# Altium footprint library light_driver.PcbLib: 26 footprints (part 2 of 2)
Each footprint in its own frame and in the unit in brackets; x right, y up, seen from the top. Pads: shape width x height; smd on the part's side, far side on the other; paste and mask are expansions set on the pad; w line width, h text height; cw(c..) or ccw(c..) is an arc to the next point about the centre after c.
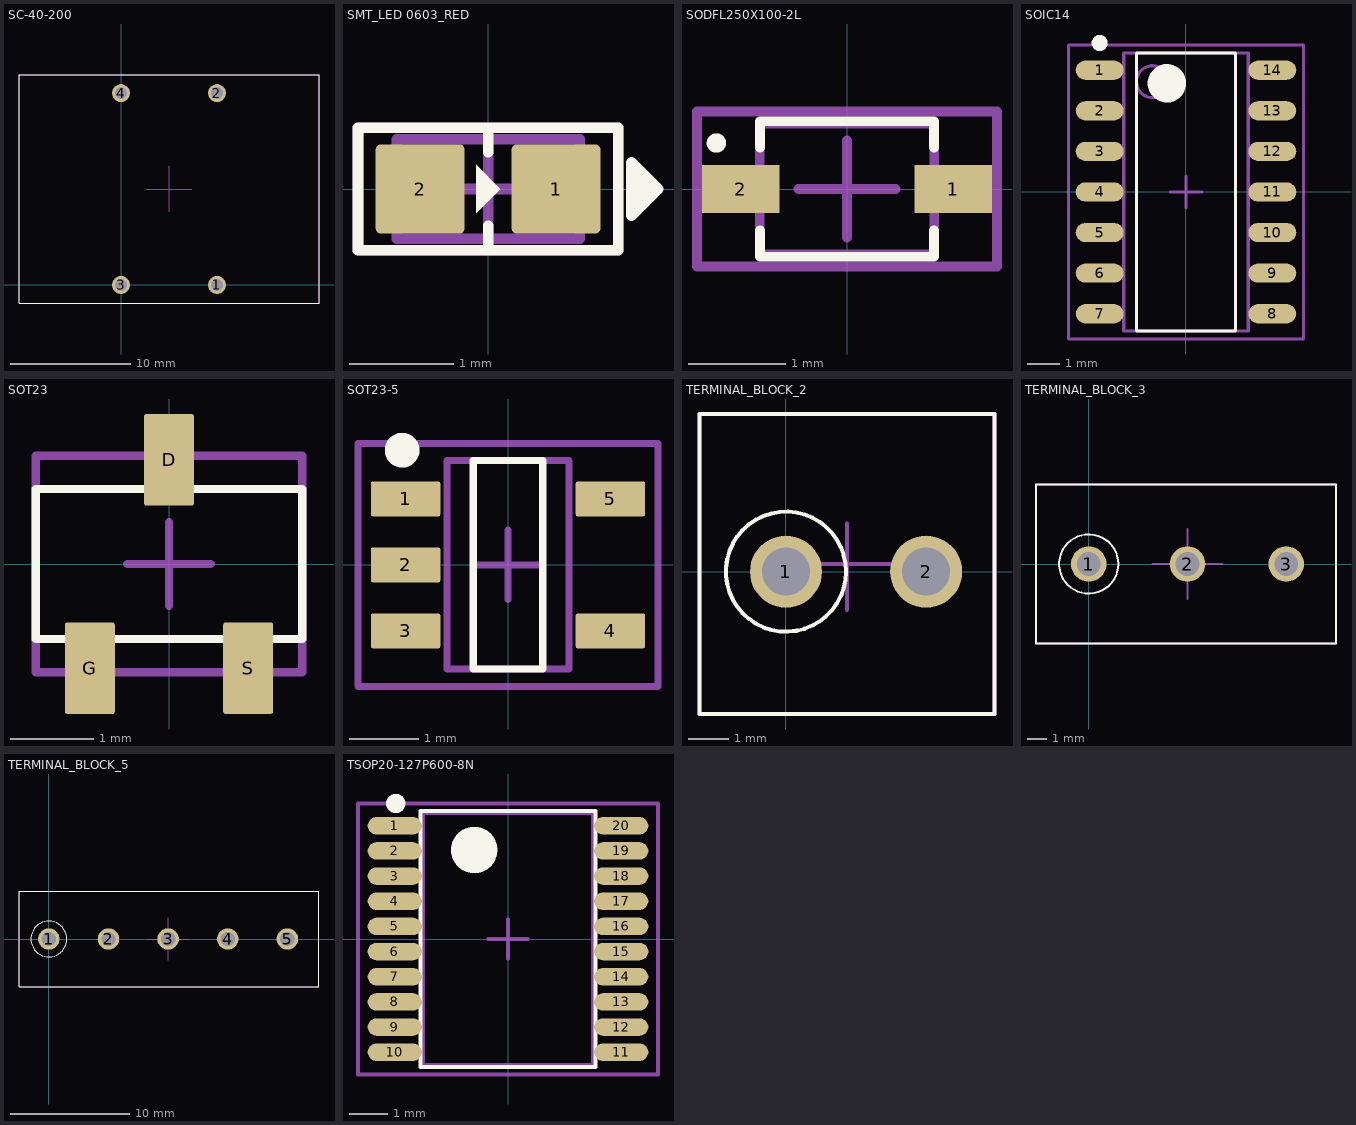
[diagram p1: the footprints below, top view; thin cyan lines are the x and y axes]

## SC-40-200 [mm] "Common mode choke"
pads (4):
  round 1.5 hole 1: 1(8,0) 2(8,16) 3(0,0) 4(0,16)
Top Overlay:
  lines w0.102: -8.509,-1.524 16.51,-1.524 16.51,17.526 -8.509,17.526 -8.509,-1.524
Top Assembly:
  lines w0.102: 2.095,8.001 4,8.001 ; 4,6.096 4,8.001 ; 4,9.906 4,8.001 ; 5.905,8.001 4,8.001 ; -8.509,-1.524 16.51,-1.524 16.51,17.526 -8.509,17.526 -8.509,-1.524
Top Courtyard:
  lines w0.102: -8.509,-1.524 16.51,-1.524 16.51,17.526 -8.509,17.526 -8.509,-1.524
3D body "SC-04-200.step": height 22.34, standoff -15.03, extent -8.5,-1.5 16.5,17.5

## SMT_LED 0603_RED [mm] "Chip Diode, 2-Leads, Body 1.60x0.80mm, IPC Medium Density"
height 0.45
pads (2):
  rrect10% 0.85x0.85 smd: 1(0.65,0) 2(-0.65,0)
Top Overlay:
  region: 1.372,0.254 1.626,0 1.372,-0.254
  region: -0.114,0.191
  region: -0.114,0.231 -0.114,-0.231 0.117,0
  lines w0.102: 0,-0.584 0,-0.35 ; 0,0.35 0,0.584 ; -1.245,-0.584 -1.245,0.584 1.245,0.584 1.245,-0.584 -1.245,-0.584 ; 1.372,-0.254 1.372,0.254 1.626,0 1.372,-0.254
Top Assembly:
  lines w0.1: -0.875,-0.475 -0.875,0.475 0.875,0.475 0.875,-0.475 -0.875,-0.475
Top Courtyard:
  lines w0.102: -0.475,0 0.475,0 ; 0,-0.475 0,0.475 ; -1.245,-0.584 -1.245,0.584 1.245,0.584 1.245,-0.584 -1.245,-0.584
3D body "LED 0603 Lens RED.STEP": height 0.53, standoff 0.18, extent -0.55,-0.4 0.55,0.4
3D body "LED 0603 Base RED.STEP": height 0.28, standoff 0, extent -0.8,-0.4 0.8,0.4

## SODFL250X100-2L [mm] "SODFL, 2-Leads, Body 1.25x2.50mm, IPC High Density"
height 1
pads (2):
  rrect1% 0.8x0.5 smd: 1(1.1,0) 2(-1.1,0)
Top Overlay:
  circle w0.1: c-1.35,0.475 r0.05
  lines w0.102: -0.9,-0.426 -0.9,-0.7 0.9,-0.7 0.9,-0.426 ; -0.9,0.426 -0.9,0.7 0.9,0.7 0.9,0.426
Top Assembly:
  lines w0.102: -0.5,0 0.5,0 ; 0,-0.5 0,0.5 ; -1.55,-0.8 -1.55,0.8 1.55,0.8 1.55,-0.8 -1.55,-0.8
Top Courtyard:
  lines w0.1: -0.9,-0.675 -0.9,0.675 0.9,0.675 0.9,-0.675 -0.9,-0.675
3D body "SODFL250X100-2L.step": height 1, standoff 0, extent -1.25,-0.675 1.25,0.675

## SOIC14 [mm] "SOIC, 14-Leads, Body 8.65x3.90mm, Pitch 1.27mm, IPC Medium Density"
height 1.75
pads (14):
  oval 1.5x0.6 smd: 1(-2.7,3.81) 2(-2.7,2.54) 3(-2.7,1.27) 4(-2.7,0) 5(-2.7,-1.27) 6(-2.7,-2.54) 7(-2.7,-3.81) 8(2.7,-3.81) 9(2.7,-2.54) 10(2.7,-1.27) 11(2.7,0) 12(2.7,1.27) 13(2.7,2.54) 14(2.7,3.81)
Top Overlay:
  circle w0.25: c-2.7,4.66 r0.125
  circle w0.6: c-0.599,3.399 r0.3
  lines w0.102: -1.55,-4.35 -1.55,4.35 1.55,4.35 1.55,-4.35 -1.55,-4.35
Top Assembly:
  circle w0.1: c-1.049,3.449 r0.5
  lines w0.102: -1.95,-4.35 -1.95,4.35 1.95,4.35 1.95,-4.35 -1.95,-4.35
Top Courtyard:
  lines w0.1: -0.5,0 0.5,0 ; 0,-0.5 0,0.5
  lines w0.102: -3.675,-4.6 -3.675,4.6 3.675,4.6 3.675,-4.6 -3.675,-4.6
3D body "SOIC14.step": height 1.75, standoff 0, extent -3,-4.35 3,4.35

## SOT23 [mm] "SOT23, 3-Leads, Body 2.90x2.30mm, Pitch 0.95mm, IPC High Density"
height 1.1
pads (3):
  rrect10% 0.6x1.1 smd: D(0,1.25) G(-0.95,-1.25) S(0.95,-1.25)
Top Overlay:
  lines w0.102: -1.6,-0.9 1.6,-0.9 1.6,0.9 -1.6,0.9 -1.6,-0.9
Top Assembly:
  lines w0.1: -1.6,-0.9 -1.6,0.9 1.6,0.9 1.6,-0.9 -1.6,-0.9
Top Courtyard:
  lines w0.102: -0.5,0 0.5,0 ; 0,-0.5 0,0.5 ; -1.6,-1.3 -1.6,1.3 1.6,1.3 1.6,-1.3 -1.6,-1.3
3D body "SOT95P230X110-3L.step": height 1.1, standoff 0, extent -1.5,-1.3 1.5,1.3

## SOT23-5 [mm] "SOT23, 5-Leads, Body 2.90x2.80mm, Pitch 0.95mm, IPC Medium Density"
height 1.25
pads (5):
  rrect10% 1x0.5 smd: 1(-1.475,0.95) 2(-1.475,0) 3(-1.475,-0.95) 4(1.475,-0.95) 5(1.475,0.95)
Top Overlay:
  circle w0.25: c-1.524,1.651 r0.125
  lines w0.102: -0.5,-1.5 0.5,-1.5 0.5,1.5 -0.5,1.5 -0.5,-1.5
Top Assembly:
  lines w0.102: -0.875,-1.5 -0.875,1.5 0.875,1.5 0.875,-1.5 -0.875,-1.5
Top Courtyard:
  lines w0.1: -0.5,0 0.5,0 ; 0,-0.5 0,0.5
  lines w0.102: -2.159,-1.75 -2.159,1.75 2.159,1.75 2.159,-1.75 -2.159,-1.75
3D body "SOT23-5.step": height 1.25, standoff 0, extent -1.5,-1.5 1.5,1.5

## TERMINAL_BLOCK_2 [mm] "2 Way 5mm screw terminal block"
height 10
pads (2):
  round 1.8 hole 1.2: 1(0,0) 2(3.5,0)
Top Overlay:
  circle w0.102: c0,0 r1.5
  lines w0.102: -2.159,-3.556 -2.159,3.937 5.207,3.937 5.207,-3.556 -2.159,-3.556
Top Assembly:
  lines w0.102: 0.445,0.191 2.603,0.191 ; 1.524,-0.953 1.524,1.206 ; -2.159,-3.556 5.207,-3.556 5.207,3.937 -2.159,3.937 -2.159,-3.556
Top Courtyard:
  lines w0.102: -2.159,-3.556 5.207,-3.556 5.207,3.937 -2.159,3.937 -2.159,-3.556
3D body "PCB Terminal Block 2 DEG381-3.5.step": height 8.6, standoff -3.6, extent -2.15,-3.5 5.25,3.9

## TERMINAL_BLOCK_3 [mm] "3 Way 5mm screw terminal block"
height 10
pads (3):
  round 1.8 hole 1.2: 1(0,0) 2(5,0) 3(10,0)
Top Overlay:
  circle w0.102: c0,0 r1.5
  lines w0.102: -2.671,-4.013 12.518,-4.013 12.518,4.013 -2.671,4.013 -2.671,-4.013
Top Assembly:
  lines w0.102: 3.222,0 5,0 ; 5,-1.778 5,0 ; 5,1.778 5,0 ; 6.778,0 5,0 ; -2.671,-4.013 -2.671,4.013 12.518,4.013 12.518,-4.013 -2.671,-4.013
Top Courtyard:
  lines w0.102: -2.671,-4.013 -2.671,4.013 12.518,4.013 12.518,-4.013 -2.671,-4.013
3D body "Screw Terminal Block 5mm 3-way.step": height 10, standoff -2, extent -2.65,-4 12.5,4

## TERMINAL_BLOCK_5 [mm] "5 Way 5mm screw terminal block"
height 10
pads (5):
  round 1.8 hole 1.2: 1(0,0) 2(5,0) 3(10,0) 4(15,0) 5(20,0)
Top Overlay:
  circle w0.102: c0,0 r1.5
  lines w0.102: -2.5,-4.013 22.65,-4.013 22.65,4.013 -2.5,4.013 -2.5,-4.013
Top Assembly:
  lines w0.102: 8.222,0 10,0 ; 10,-1.778 10,0 ; 10,1.778 10,0 ; 11.778,0 10,0 ; -2.5,-4.013 -2.5,4.013 22.65,4.013 22.65,-4.013 -2.5,-4.013
Top Courtyard:
  lines w0.102: -2.5,-4.013 -2.5,4.013 22.65,4.013 22.65,-4.013 -2.5,-4.013
3D body "Screw Terminal Block 5mm 5-way.step": height 10, standoff -2, extent -2.5,-4 22.65,4

## TSOP20-127P600-8N [mm] "TSOP-20"
height 1.1
pads (20):
  oval 1.4x0.45 smd: 1(-2.925,2.925) 2(-2.925,2.275) 3(-2.925,1.625) 4(-2.925,0.975) 5(-2.925,0.325) 6(-2.925,-0.325) 7(-2.925,-0.975) 8(-2.925,-1.625) 9(-2.925,-2.275) 10(-2.925,-2.925) 11(2.925,-2.925) 12(2.925,-2.275) 13(2.925,-1.625) 14(2.925,-0.975) 15(2.925,-0.325) 16(2.925,0.325) 17(2.925,0.975) 18(2.925,1.625) 19(2.925,2.275) 20(2.925,2.925)
Top Overlay:
  circle w0.25: c-2.9,3.5 r0.125
  circle w0.6: c-0.874,2.299 r0.3
  lines w0.102: -2.261,-3.302 -2.261,3.302 2.261,3.302 2.261,-3.302 -2.261,-3.302
Top Assembly:
  circle w0.1: c-0.874,2.299 r0.5
  lines w0.102: -2.2,-3.25 -2.2,3.25 2.2,3.25 2.2,-3.25 -2.2,-3.25
Top Courtyard:
  lines w0.1: -0.5,0 0.5,0 ; 0,-0.5 0,0.5
  lines w0.102: -3.875,-3.5 -3.875,3.5 3.875,3.5 3.875,-3.5 -3.875,-3.5
3D body "TSOP20-127P600-8N.step": height 1.1, standoff 0, extent -3.2,-3.25 3.2,3.25